# EAGLE library part CONN_RJ45_X8 (library GPLIB_CONN)
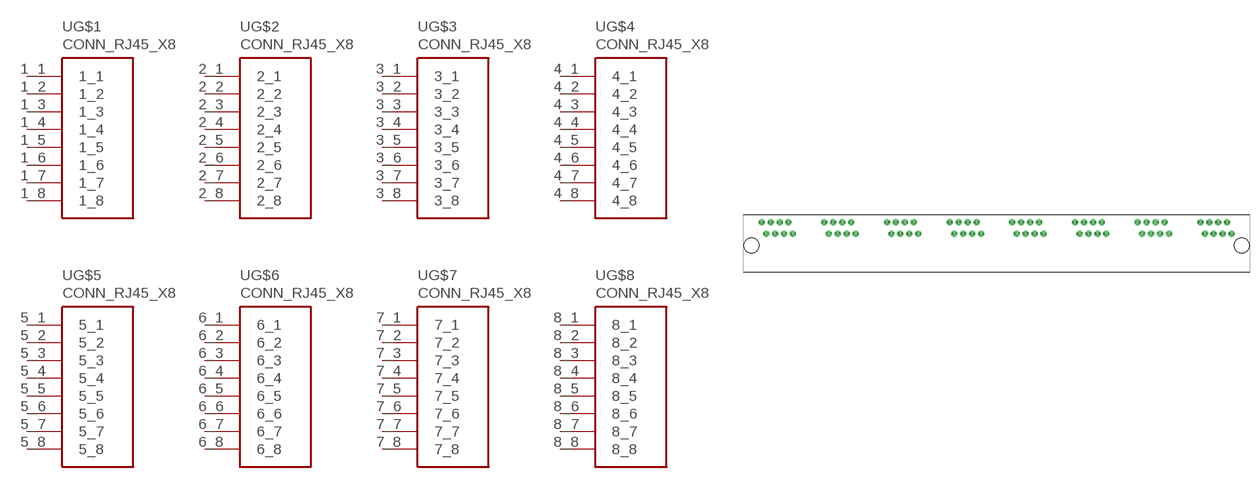
[diagram p52: symbol with the pads of CONN_RJ45_X8_HC-WK88-H13-1X8-55QS; footprint CONN_RJ45_X8_HC-WK88-H13-1X8-55QS]

Designator prefix -; gates G$1=CONN_ETH_PORT1 G$3=CONN_ETH_PORT3 G$2=CONN_ETH_PORT2 G$4=CONN_ETH_PORT4 G$5=CONN_ETH_PORT5 G$6=CONN_ETH_PORT6 G$7=CONN_ETH_PORT7 G$8=CONN_ETH_PORT8

## CONN_RJ45_X8  [CONN_RJ45_X8_HC-WK88-H13-1X8-55QS]
1_1  G$1:1_1  pas
1_2  G$1:1_2  pas
1_3  G$1:1_3  pas
1_4  G$1:1_4  pas
1_5  G$1:1_5  pas
1_6  G$1:1_6  pas
1_7  G$1:1_7  pas
1_8  G$1:1_8  pas
2_1  G$2:2_1  pas
2_2  G$2:2_2  pas
2_3  G$2:2_3  pas
2_4  G$2:2_4  pas
2_5  G$2:2_5  pas
2_6  G$2:2_6  pas
2_7  G$2:2_7  pas
2_8  G$2:2_8  pas
3_1  G$3:3_1  pas
3_2  G$3:3_2  pas
3_3  G$3:3_3  pas
3_4  G$3:3_4  pas
3_5  G$3:3_5  pas
3_6  G$3:3_6  pas
3_7  G$3:3_7  pas
3_8  G$3:3_8  pas
4_1  G$4:4_1  pas
4_2  G$4:4_2  pas
4_3  G$4:4_3  pas
4_4  G$4:4_4  pas
4_5  G$4:4_5  pas
4_6  G$4:4_6  pas
4_7  G$4:4_7  pas
4_8  G$4:4_8  pas
5_1  G$5:5_1  pas
5_2  G$5:5_2  pas
5_3  G$5:5_3  pas
5_4  G$5:5_4  pas
5_5  G$5:5_5  pas
5_6  G$5:5_6  pas
5_7  G$5:5_7  pas
5_8  G$5:5_8  pas
6_1  G$6:6_1  pas
6_2  G$6:6_2  pas
6_3  G$6:6_3  pas
6_4  G$6:6_4  pas
6_5  G$6:6_5  pas
6_6  G$6:6_6  pas
6_7  G$6:6_7  pas
6_8  G$6:6_8  pas
7_1  G$7:7_1  pas
7_2  G$7:7_2  pas
7_3  G$7:7_3  pas
7_4  G$7:7_4  pas
7_5  G$7:7_5  pas
7_6  G$7:7_6  pas
7_7  G$7:7_7  pas
7_8  G$7:7_8  pas
8_1  G$8:8_1  pas
8_2  G$8:8_2  pas
8_3  G$8:8_3  pas
8_4  G$8:8_4  pas
8_5  G$8:8_5  pas
8_6  G$8:8_6  pas
8_7  G$8:8_7  pas
8_8  G$8:8_8  pas

## Footprint CONN_RJ45_X8_HC-WK88-H13-1X8-55QS (pad centres in mm)
drill 0.94: 1_1 -45.5,2.19; 1_2 -46.5,4.73; 1_3 -47.5,2.19; 1_4 -48.5,4.73; 1_5 -49.5,2.19; 1_6 -50.5,4.73; 1_7 -51.5,2.19; 1_8 -52.5,4.73; 2_1 -31.5,2.19; 2_2 -32.5,4.73; 2_3 -33.5,2.19; 2_4 -34.5,4.73; 2_5 -35.5,2.19; 2_6 -36.5,4.73; 2_7 -37.5,2.19; 2_8 -38.5,4.73; 3_1 -17.5,2.19; 3_2 -18.5,4.73; 3_3 -19.5,2.19; 3_4 -20.5,4.73; 3_5 -21.5,2.19; 3_6 -22.5,4.73; 3_7 -23.5,2.19; 3_8 -24.5,4.73; 4_1 -3.5,2.19; 4_2 -4.5,4.73; 4_3 -5.5,2.19; 4_4 -6.5,4.73; 4_5 -7.5,2.19; 4_6 -8.5,4.73; 4_7 -9.5,2.19; 4_8 -10.5,4.73; 5_1 10.5,2.19; 5_2 9.5,4.73; 5_3 8.5,2.19; 5_4 7.5,4.73; 5_5 6.5,2.19; 5_6 5.5,4.73; 5_7 4.5,2.19; 5_8 3.5,4.73; 6_1 24.5,2.19; 6_2 23.5,4.73; 6_3 22.5,2.19; 6_4 21.5,4.73; 6_5 20.5,2.19; 6_6 19.5,4.73; 6_7 18.5,2.19; 6_8 17.5,4.73; 7_1 38.5,2.19; 7_2 37.5,4.73; 7_3 36.5,2.19; 7_4 35.5,4.73; 7_5 34.5,2.19; 7_6 33.5,4.73; 7_7 32.5,2.19; 7_8 31.5,4.73; 8_1 52.5,2.19; 8_2 51.5,4.73; 8_3 50.5,2.19; 8_4 49.5,4.73; 8_5 48.5,2.19; 8_6 47.5,4.73; 8_7 46.5,2.19; 8_8 45.5,4.73
hole 3.302 at -54.75,-0.4
hole 3.302 at 54.75,-0.4